# EAGLE library part TS912ID (library TS912ID)
Rail-to-Rail CMOS Dual Operational Amplifier
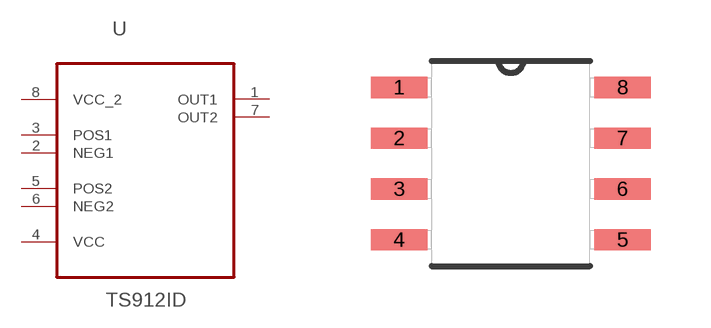
[diagram p0: symbol with the pads of SOIC127P600X175-8N; footprint SOIC127P600X175-8N]

Designator prefix U

## TS912ID (AVAILABILITY: Good; DESCRIPTION: TS912 Series 16 V 1.4 MHz Rail to Rail CMOS Dual Operational Amplifier - SOIC-8; MF: STMicroelectronics; MP: TS912ID; PACKAGE: SOIC-8 STMicroelectronics; PRICE: 0.95 USD)  [SOIC127P600X175-8N]
1  OUT1  out
2  NEG1  in
3  POS1  in
4  VCC  pwr
5  POS2  in
6  NEG2  in
7  OUT2  out
8  VCC_2  pwr

## Footprint SOIC127P600X175-8N (pad centres in mm)
smd 1.422 x 0.533: 1 -2.794,1.905; 2 -2.794,0.635; 3 -2.794,-0.635; 4 -2.794,-1.905; 5 2.794,-1.905; 6 2.794,-0.635; 7 2.794,0.635; 8 2.794,1.905